# Altium footprint library STM32.PcbLib: 13 footprints
Each footprint in its own frame and in the unit in brackets; x right, y up, seen from the top. Pads: shape width x height; smd on the part's side, far side on the other; paste and mask are expansions set on the pad; w line width, h text height; cw(c..) or ccw(c..) is an arc to the next point about the centre after c.
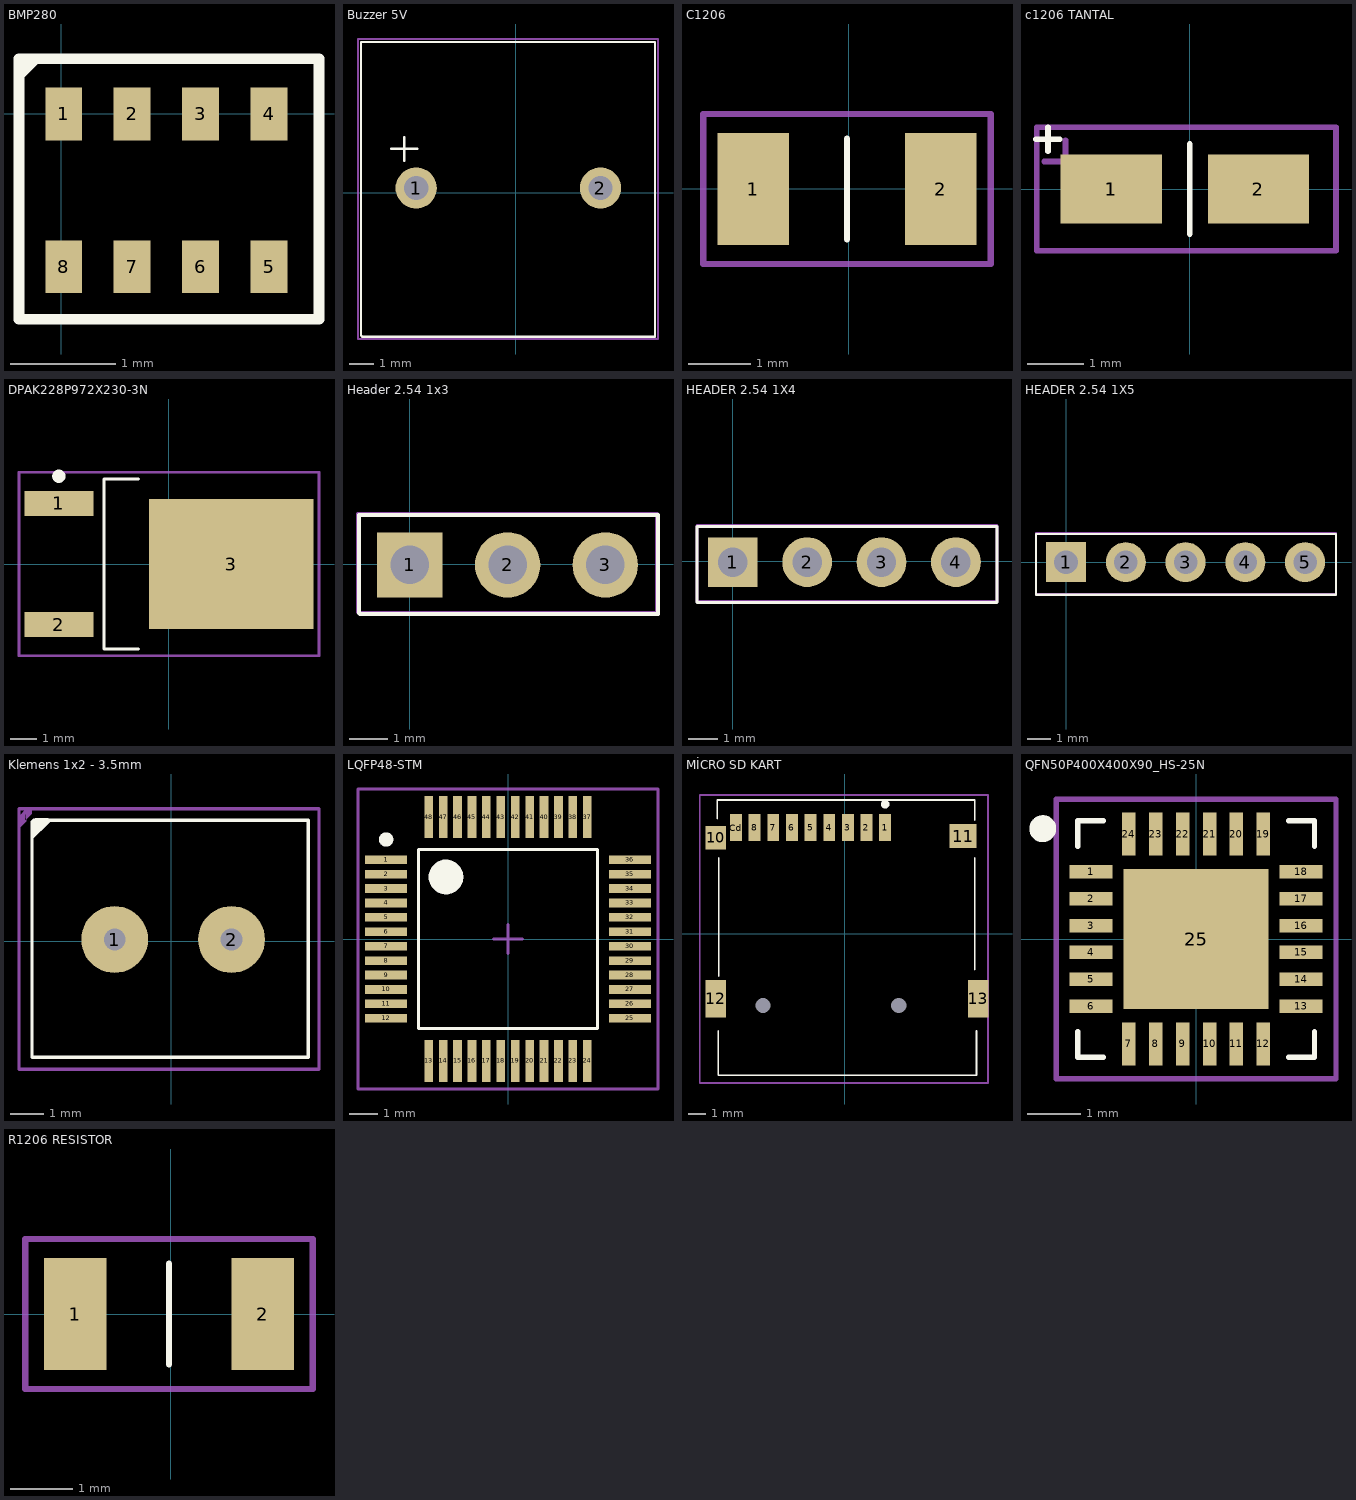
[diagram p0: the footprints below, top view; thin cyan lines are the x and y axes]

## BMP280 [mm]
pads (8):
  rect 0.35x0.5 smd mask+0.05: 1(0.025,0) 2(0.675,0) 3(1.325,0) 4(1.975,0) 5(1.975,-1.45) 6(1.325,-1.45) 7(0.675,-1.45) 8(0.025,-1.45)
Top Overlay:
  region: -0.4,0.3 -0.175,0.525 -0.4,0.525
  lines w0.1: -0.4,-1.95 2.45,-1.95 2.45,0.525 -0.4,0.525 -0.4,-1.95
3D body "User Library-BMP280.step": height 0.95, standoff -0.01, extent -0.25,-1.7 2.25,0.3

## Buzzer 5V [mm]
pads (2):
  round 1.7 hole 1 mask+0.05: 1(-4.1,0.2) 2(3.5,0.2)
Top Overlay:
  lines w0.1: -5.125,1.825 -4.05,1.825 ; -4.6,1.325 -4.6,2.3 ; -6.375,-5.875 -6.375,6.225 5.75,6.225 5.75,-5.925 -6.325,-5.925 -6.375,-5.875
Mechanical 3:
  lines w0.1: -6.5,-6.025 -6.5,6.35 5.875,6.35 5.875,-6.025 -6.5,-6.025
3D body "cem-1205c.stp": height 9.5, standoff -4.5, extent -6.3,-5.85 5.7,6.15

## C1206 [mm]
pads (2):
  rect 1.15x1.8 smd mask+0.05: 1(-1.525,0) 2(1.475,0)
Top Overlay:
  lines w0.1: -0.025,-0.805 -0.025,0.805
Mechanical 3:
  lines w0.1: -2.325,-1.2 2.275,-1.2 2.275,1.2 -2.325,1.2 -2.325,-1.2
3D body "1206CAP.step": height 1, standoff 0, extent -1.625,-0.8 1.575,0.8

## c1206 TANTAL [mm]
pads (3):
  rect 1.8x1.23 smd mask+0.05: 1(-1.4,0) 1(-1.4,0) 2(1.22,0)
Top Overlay:
  lines w0.1: -2.738,0.888 -2.313,0.888 ; -2.525,0.675 -2.525,1.1 ; 0,-0.8 0,0.8
Mechanical 3:
  lines w0.1: -2.594,0.489 -1.832,0.489 ; -2.213,0.108 -2.213,0.87 ; -2.725,-1.1 -2.725,1.1 2.6,1.1 2.6,-1.1 -2.725,-1.1
3D body "User Library-CaseA_3216-18.step": height 1.62, standoff 0.02, extent -1.7,-0.8 1.5,0.8

## DPAK228P972X230-3N [mm] "D-PAK, 3-Pads, Body 6,40x6,56mm (max), IPC Medium Density"
height 2.3
pads (3):
  rect 2.6x0.95 smd mask+0.05: 1(-4.15,2.28) 2(-4.15,-2.28)
  rect 6.2x4.9 smd mask+0.05: 3(2.35,0)
Top Overlay:
  circle w0.25: c-4.15,3.305 r0.125
  lines w0.1: -1.15,-3.2 -2.45,-3.2 -2.45,3.2 -1.15,3.2
Mechanical 3:
  lines w0.1: -0.5,0 0.5,0 ; 0,-0.5 0,0.5 ; -5.65,-3.45 5.65,-3.45 5.65,3.45 -5.65,3.45 -5.65,-3.45
3D body: height 2.3, standoff 1, extent -2.5,-3.2 4.1,3.2

## Header 2.54 1x3 [mm]
pads (3):
  rect 1.7x1.7 hole 1 mask+0.05: 1(0,-0.025)
  round 1.7 hole 1 mask+0.05: 2(2.54,-0.025) 3(5.08,-0.025)
Top Overlay:
  lines w0.1: -1.325,-1.275 -1.3,-1.3 6.45,-1.3 6.45,1.275 -1.325,1.275 -1.325,-1.275
Mechanical 3:
  lines w0.1: -1.35,-1.25 -1.35,1.3 6.425,1.3 6.425,-1.275 -1.325,-1.275 -1.35,-1.25
3D body "User Library-ZL262-3SG.step": height 9.1, standoff -2.45, extent -1.26,-1.275 6.36,1.225

## HEADER 2.54 1X4 [mm]
pads (4):
  rect 1.7x1.7 hole 1 mask+0.05: 1(0,-0.025)
  round 1.7 hole 1 mask+0.05: 2(2.54,-0.025) 3(5.08,-0.025) 4(7.62,-0.025)
Top Overlay:
  lines w0.1: -1.225,-1.4 9.025,-1.4 9.025,1.2 -1.225,1.2 -1.225,-1.4
Mechanical 3:
  lines w0.1: -1.225,-1.375 -1.225,1.225 9.025,1.225 9.025,-1.375 -1.225,-1.375
3D body "User Library-ZL262-4SG.step": height 9.1, standoff -2.45, extent -1.18,-1.35 8.98,1.15

## HEADER 2.54 1X5 [mm]
pads (5):
  rect 1.7x1.7 hole 1 mask+0.05: 1(0,0)
  round 1.7 hole 1 mask+0.05: 2(2.54,0) 3(5.08,0) 4(7.62,0) 5(10.16,0)
Top Overlay:
  lines w0.1: -1.275,-1.375 11.475,-1.375 11.475,1.2 -1.275,1.2 -1.275,-1.375
Mechanical 3:
  lines w0.1: -1.275,-1.35 11.475,-1.35 11.475,1.225 -1.275,1.225 -1.275,-1.35
3D body "User Library-ZL262-5SG (1).step": height 9.1, standoff -2.45, extent -1.25,-1.3 11.45,1.2

## Klemens 1x2 - 3.5mm [mm]
pads (2):
  round 2 hole 0.65: 1(-1.7,0.05) 2(1.8,0.05)
Top Overlay:
  region: -3.633,3.582 -4.206,3.009 -4.206,3.544 -4.073,3.677 -3.693,3.677
  lines w0.1: -4.175,3.575 -4.175,-3.475 4.1,-3.475 4.1,3.625 -4.125,3.625
Mechanical 3:
  region: -4.348,3.96 -4.564,3.744 -4.564,3.961 -4.562,3.96 -4.348,3.96 -4.348,3.596 -4.562,3.382 -4.562,3.96 -4.348,3.96 -4.341,3.953 -4.182,3.953 -4.182,3.809 -4.385,3.607
  lines w0.1: -4.562,-3.822 -4.553,-3.831 4.417,-3.831 4.417,3.96 -4.348,3.96 -4.562,3.96 -4.562,-3.822
3D body "terminal_blocks_a-tb350-te02.stp": height 8.9, standoff -3.29, extent -4,-3.35 3.994,3.65

## LQFP48-STM [mm] "TSQFP, 48-Leads, Body 7,00x7,00mm, Pitch 0,50mm, IPC Medium Density"
height 1.6
pads (48):
  rect 1.45x0.3 smd mask+0.05: 1(-4.225,2.75) 2(-4.225,2.25) 3(-4.225,1.75) 4(-4.225,1.25) 5(-4.225,0.75) 6(-4.225,0.25) 7(-4.225,-0.25) 8(-4.225,-0.75) 9(-4.225,-1.25) 10(-4.225,-1.75) 11(-4.225,-2.25) 12(-4.225,-2.75) 25(4.225,-2.75) 26(4.225,-2.25) 27(4.225,-1.75) 28(4.225,-1.25) 29(4.225,-0.75) 30(4.225,-0.25) 31(4.225,0.25) 32(4.225,0.75) 33(4.225,1.25) 34(4.225,1.75) 35(4.225,2.25) 36(4.225,2.75)
  rect 0.3x1.45 smd mask+0.05: 13(-2.75,-4.225) 14(-2.25,-4.225) 15(-1.75,-4.225) 16(-1.25,-4.225) 17(-0.75,-4.225) 18(-0.25,-4.225) 19(0.25,-4.225) 20(0.75,-4.225) 21(1.25,-4.225) 22(1.75,-4.225) 23(2.25,-4.225) 24(2.75,-4.225) 37(2.75,4.225) 38(2.25,4.225) 39(1.75,4.225) 40(1.25,4.225) 41(0.75,4.225) 42(0.25,4.225) 43(-0.25,4.225) 44(-0.75,4.225) 45(-1.25,4.225) 46(-1.75,4.225) 47(-2.25,4.225) 48(-2.75,4.225)
Top Overlay:
  circle w0.25: c-4.225,3.45 r0.125
  circle w0.6: c-2.15,2.15 r0.3
  lines w0.1: -3.1,-3.1 -3.1,3.1 3.1,3.1 3.1,-3.1 -3.1,-3.1
Mechanical 3:
  lines w0.1: -0.5,0 0.5,0 ; 0,-0.5 0,0.5 ; -5.2,-5.2 5.2,-5.2 5.2,5.2 -5.2,5.2 -5.2,-5.2
3D body "LQFP48-STM.step": height 1.6, standoff 0, extent -4.5,-4.5 4.5,4.5

## MİCRO SD KART [mm]
pads (15):
  rect 0.7x1.6 smd paste+0 mask+0: 1(2.384,6.275) 2(1.284,6.275) 3(0.184,6.275) 4(-0.916,6.275) 5(-2.016,6.275) 6(-3.116,6.275) 7(-4.216,6.275) 8(-5.316,6.275) Cd(-6.416,6.275)
  rect 1.2x1.4 smd paste+0 mask+0: 10(-7.616,5.675)
  rect 1.6x1.4 smd paste+0 mask+0: 11(6.984,5.775)
  rect 1.2x2.2 smd paste+0 mask+0: 12(-7.616,-3.825) 13(7.884,-3.825)
  round 0 hole 0.9 unplated paste-1000 mask+0: ""(-4.816,-4.225) ""(3.184,-4.225)
Top Overlay:
  circle w0.25: c2.384,7.65 r0.125
  lines w0.1: -7.525,6.8 -7.525,7.9 7.675,7.9 7.675,6.7 ; -7.458,-5.725 -7.458,-8.347 7.775,-8.347 7.775,-5.725 ; -7.425,-2.5 -7.425,4.5 ; 7.675,-2.1 7.675,4.5
Mechanical 3:
  lines w0.1: -8.55,-8.8 8.45,-8.8 8.45,8.2 8.2,8.2 -8.05,8.2 -8.55,8.2 -8.55,-8.8
3D body "User Library-MEM2055-00-190-01-A_revG.step": height 1.85, standoff -0.6, extent -7.867,-8.22 8.133,7.03

## QFN50P400X400X90_HS-25N [mm] "QFN, 24-Leads, Body 4,00x4,00mm, Pitch 0,50mm, Thermal Pad 2,70x2,60mm, IPC Medium Density"
height 0.9
pads (25):
  rect 0.8x0.25 smd mask+0.05: 1(-1.95,1.25) 2(-1.95,0.75) 3(-1.95,0.25) 4(-1.95,-0.25) 5(-1.95,-0.75) 6(-1.95,-1.25) 13(1.95,-1.25) 14(1.95,-0.75) 15(1.95,-0.25) 16(1.95,0.25) 17(1.95,0.75) 18(1.95,1.25)
  rect 0.25x0.8 smd mask+0.05: 7(-1.25,-1.95) 8(-0.75,-1.95) 9(-0.25,-1.95) 10(0.25,-1.95) 11(0.75,-1.95) 12(1.25,-1.95) 19(1.25,1.95) 20(0.75,1.95) 21(0.25,1.95) 22(-0.25,1.95) 23(-0.75,1.95) 24(-1.25,1.95)
  rect 2.7x2.6 smd mask+0.05: 25(0,0)
Top Overlay:
  circle w0.25: c-2.85,2.05 r0.125
  lines w0.1: -2.2,-1.725 -2.2,-2.2 -1.725,-2.2 ; -2.2,1.725 -2.2,2.2 -1.725,2.2 ; 1.725,-2.2 2.2,-2.2 2.2,-1.725 ; 1.725,2.2 2.2,2.2 2.2,1.725
Mechanical 3:
  lines w0.1: -0.5,0 0.5,0 ; 0,-0.5 0,0.5 ; -2.6,-2.6 2.6,-2.6 2.6,2.6 -2.6,2.6 -2.6,-2.6
3D body "QFN50P400X400X90_HS-25N.step": height 0.9, standoff 0, extent -2.07,-2.07 2.07,2.07

## R1206 RESISTOR [mm]
pads (2):
  rect 1x1.8 smd mask+0.05: 1(-1.525,0) 2(1.475,0)
Top Overlay:
  lines w0.1: -0.025,-0.805 -0.025,0.805
Mechanical 3:
  lines w0.1: -2.325,-1.2 -2.325,1.2 2.275,1.2 2.275,-1.2 -2.325,-1.2
3D body "1206RES.step": height 0.55, standoff 0, extent -1.625,-0.805 1.575,0.805